# EAGLE library part TLV61046A (library xensiv_pas)
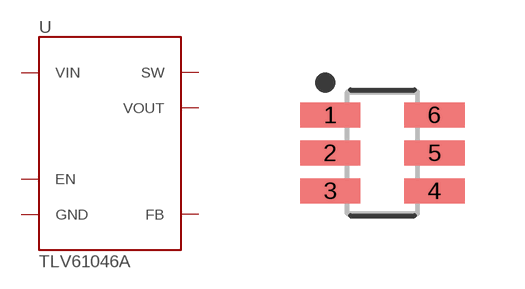
[diagram p1: symbol with the pads of SOT95P280X145-6M; footprint SOT95P280X145-6M]

Designator prefix U

## TLV61046A (PROD_ID: IC-19133; VALUE: TLV61046A)  [SOT95P280X145-6M]
1  SW
2  GND
3  FB
4  EN
5  VIN
6  VOUT

## Footprint SOT95P280X145-6M (pad centres in mm)
6-SOT23, 0.95 mm pitch, 2.80 mm span, 2.90 X 1.60 X 1.45 mm body 6-pin SOT23 package with 0.95 mm pitch, 2.80 mm span with body size 2.90 X 1.60 X 1.45 mm
smd 1.509 x 0.624: 1 -1.303,0.95; 2 -1.303,0; 3 -1.303,-0.95; 4 1.303,-0.95; 5 1.303,0; 6 1.303,0.95